# Altium footprint library MCRM3HAF-10R-V-B.PcbLib: 1 footprints
Each footprint in its own frame and in the unit in brackets; x right, y up, seen from the top. Pads: shape width x height; smd on the part's side, far side on the other; paste and mask are expansions set on the pad; w line width, h text height; cw(c..) or ccw(c..) is an arc to the next point about the centre after c.
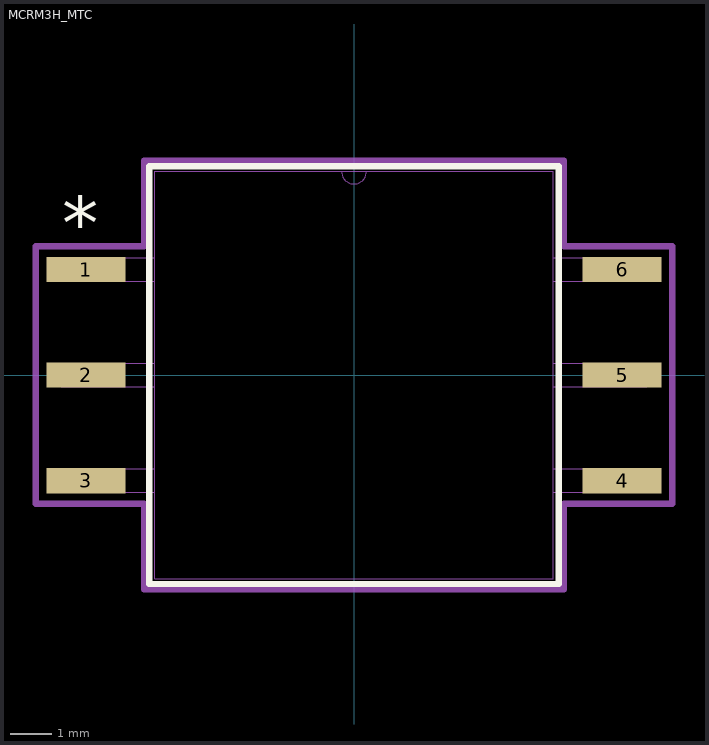
[diagram p0: the footprint, top view; thin cyan lines are the x and y axes]

## MCRM3H_MTC [mil]
pads (6):
  rect 75x24 smd: 1(-254,100) 2(-254,0) 3(-254,-100) 4(254,-100) 5(254,0) 6(254,100)
Top Overlay:
  lines w6: -194,-198 -194,198 194,198 194,-198 -194,-198
  text "*" at -276.5,119 h50
Mechanical 13:
  lines w0: -12,193 ccw(c0,193) 12,193
  lines w1: -277.5,-111 -189,-111 -189,-89 -277.5,-89 -277.5,-111 ; -277.5,-11 -189,-11 -189,11 -277.5,11 -277.5,-11 ; -277.5,89 -189,89 -189,111 -277.5,111 -277.5,89 ; -189,-193 -189,193 189,193 189,-193 -189,-193 ; 189,-111 277.5,-111 277.5,-89 189,-89 189,-111 ; 189,-11 277.5,-11 277.5,11 189,11 189,-11 ; 189,89 277.5,89 277.5,111 189,111 189,89
  text "*" at -186.5,140 h50
Mechanical 15:
  lines w6: -301.5,-122 -199,-122 -199,-203 199,-203 199,-122 301.5,-122 301.5,122 199,122 199,203 -199,203 -199,122 -301.5,122 -301.5,-122